# Altium schematic symbol library MCBoard_sch.SchLib: 61 symbols
Pins are listed as number, name and electrical type; pins without a type are passive.

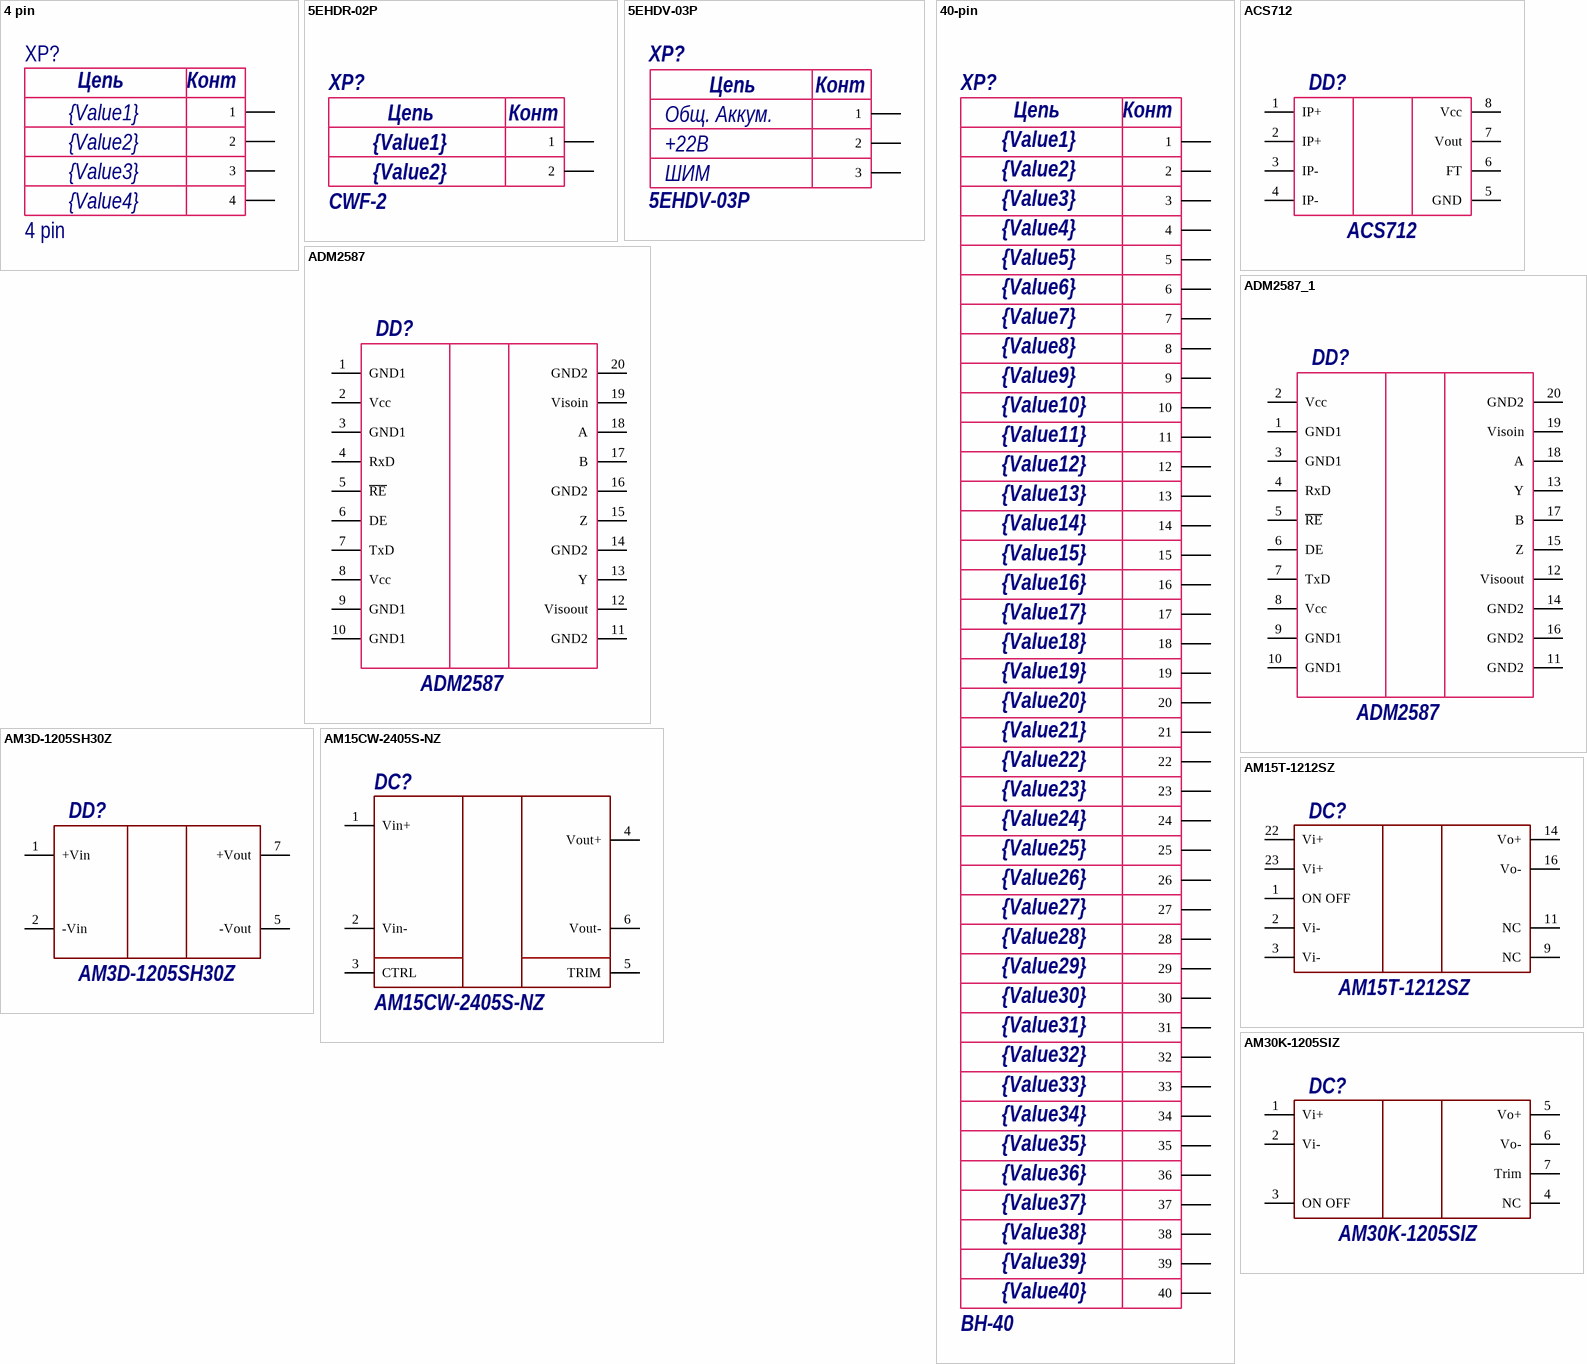
[diagram p0: symbols 4 pin to AM30K-1205SIZ]

## 4 pin
designator XP?  Value1: {Value1}  Value2: {Value2}  Value3: {Value3}  Value4: {Value4}
footprint PLD4
footprint CWF-4
pins: 1, 2, 3, 4
text: Цепь; Конт

## 5EHDR-02P
designator XP?  value CWF-2  Value1: {Value1}  Value2: {Value2}  (hidden comment: *)
Manufacturer: Connfly; Notice: Вилка-мама 2 пина, шаг 2.5мм; Rate: 500В AC 1min; Case: корпус; Datasheet: https://lib.chipdip.ru/413/DOC001413777.pdf; Shop: https://www.chipdip.ru/product/cwf-2
footprint 5EHDR-02P
pins: 1, 2
text: Цепь; Конт

## 5EHDV-03P
designator XP?  Value1: +22В  Value2: ШИМ  Value3: Общ. Аккум.  (hidden comment: 5EHDV-03P)
Manufactore: KLS; Rate: 300В 16ADC; Case: корпус; Shop: https://www.chipdip.ru/product/5ehdv-03p-dinkle?from=suggest_product; Value: 5EHDV-03P
footprint 5EHDV-03P
pins: 1, 2, 3
text: Цепь; Конт

## 40-pin
designator XP?  value BH-40  Value10: {Value10}  Value11: {Value11}  Value12: {Value12}  Value13: {Value13}  Value14: {Value14}  Value15: {Value15}  Value16: {Value16}  Value17: {Value17}  Value18: {Value18}  Value1: {Value1}  Value2: {Value2}  Value3: {Value3}  Value4: {Value4}  Value5: {Value5}  Value6: {Value6}  Value7: {Value7}  Value8: {Value8}  Value9: {Value9}  Value19: {Value19}  Value20: {Value20}  Value21: {Value21}  Value22: {Value22}  Value23: {Value23}  Value24: {Value24}  Value25: {Value25}  Value26: {Value26}  Value27: {Value27}  Value28: {Value28}  Value29: {Value29}  Value30: {Value30}  Value31: {Value31}  Value32: {Value32}  Value33: {Value33}  Value34: {Value34}  Value35: {Value35}  Value36: {Value36}  Value37: {Value37}  Value38: {Value38}  Value39: {Value39}  Value40: {Value40}  (hidden comment: *)
Manufacturer: Connfly; Notice: Вилка-мама 40 пинов, шаг 2.54мм; Rate: 500В AC 1min; Case: корпус; Datasheet: https://lib.chipdip.ru/463/DOC002463525.pdf; Shop: https://www.chipdip.ru/product/idc-40ms
footprint BH-40(IDC-40MS)
pins: 1, 2, 3, 4, 5, 6, 7, 8, 9, 10, 11, 12, 13, 14, 15, 16, 17, 18, 19, 20, 21, 22, 23, 24, 25, 26, 27, 28, 29, 30, 31, 32, 33, 34, 35, 36, 37, 38, 39, 40
text: Цепь; Конт

## ACS712
designator DD?
Manufacturer: Allegro Microsystems; Rate: 4,5...5,5В; Notice: Датчик постоянного тока на эффекте Холла; Datasheet: http://www.allegromicro.com/~/media/Files/Datasheets/ACS712-Datasheet.ashx; Shop: https://www.chipdip.ru/product/acs712elctr-05b-t; Value: ACS712
footprint SOIC8N (SOIC, 8-Leads, Body 4,90x3,90mm, Pitch 1,27mm, IPC Medium Density)
pins: 1 IP+, 2 IP+, 3 IP-, 4 IP-, 5 GND, 6 FT, 7 Vout, 8 Vcc

## ADM2587
designator DD?
Manufacturer: Analog Devies; Notice: Преобразователь RS-485 - UART с развязанным питанием и шиной данных; Rate: -0,5...7,5В; Datasheet: http://www.analog.com/media/en/technical-documentation/data-sheets/ADM2582E_2587E.pdf; Shop: https://ru.aliexpress.com/item/Free-shipping-10PCS-1lot-IC-ADM2587EBRWZ-ADM2587E-2587EBRWZ-SOP-20/32722806856.html?spm=a2g0v.search0302.3.9.s5rrmf&ws_ab_test=searchweb0_0,searchweb201602_0_10073_10152_10151_10536_10538_10537_10539_10055_10154_10211_10056_10155_10059_10312_10314_10534_10313_10533_10060_10084_100031_10083_10129_10107_10128_10307_10341_10065_10142_10340_10068_10343_10541_10342_10125_10169_10301_10345_10103_10543_10102_10344,searchweb201603_0,ppcSwitch_0&algo_pvid=65e5a329-1a38-4845-a227-d5df7d082cf8&algo_expid=65e5a329-1a38-4845-a227-d5df7d082cf8-1
footprint SOIC20N (SOIC, 20-Leads, Body 12,80x7,50mm, Pitch 1,27mm, IPC Medium Density)
pins: 1 GND1 (power), 2 Vcc (power), 3 GND1, 4 RxD, 5 ~{RE}, 6 DE, 7 TxD, 8 Vcc (power), 9 GND1 (power), 10 GND1, 11 GND2 (power), 12 Visoout (power), 13 Y, 14 GND2, 15 Z, 16 GND2, 17 B, 18 A, 19 Visoin (power), 20 GND2 (power)

## ADM2587_1
designator DD?, comment ADM2587
Manufacturer: Analog Devies; Notice: Преобразователь RS-485 - UART с развязанным питанием и шиной данных; Rate: -0,5...7,5В; Datasheet: http://www.analog.com/media/en/technical-documentation/data-sheets/ADM2582E_2587E.pdf; Shop: https://ru.aliexpress.com/item/Free-shipping-10PCS-1lot-IC-ADM2587EBRWZ-ADM2587E-2587EBRWZ-SOP-20/32722806856.html?spm=a2g0v.search0302.3.9.s5rrmf&ws_ab_test=searchweb0_0,searchweb201602_0_10073_10152_10151_10536_10538_10537_10539_10055_10154_10211_10056_10155_10059_10312_10314_10534_10313_10533_10060_10084_100031_10083_10129_10107_10128_10307_10341_10065_10142_10340_10068_10343_10541_10342_10125_10169_10301_10345_10103_10543_10102_10344,searchweb201603_0,ppcSwitch_0&algo_pvid=65e5a329-1a38-4845-a227-d5df7d082cf8&algo_expid=65e5a329-1a38-4845-a227-d5df7d082cf8-1
footprint SOIC20N (SOIC, 20-Leads, Body 12,80x7,50mm, Pitch 1,27mm, IPC Medium Density)
pins: 1 GND1 (power), 2 Vcc (power), 3 GND1, 4 RxD, 5 ~{RE}, 6 DE, 7 TxD, 8 Vcc (power), 9 GND1 (power), 10 GND1, 11 GND2 (power), 12 Visoout (power), 13 Y, 14 GND2, 15 Z, 16 GND2, 17 B, 18 A, 19 Visoin (power), 20 GND2 (power)

## AM3D-1205SH30Z
designator DD?
Manufacturer: AIMTEC; Rate: 10,8…13,2В; Shop: ЭЛТЕХ-СПБ; Datasheet: http://www.aimtec.com/site/Aimtec/files/Datasheet/HIGHResolution/AM3D-Z.PDF; Notice: *; Case: SIP7; Value: AM3D-1205SH30Z
footprint AM3D-1205SH30Z
pins: 1 +Vin, 2 -Vin, 5 -Vout, 7 +Vout

## AM15CW-2405S-NZ
designator DC?
Manufacturer: AIMTEC; Notice: 15Вт, вход 9…36В, выход 5В/3А,; Rate: 9…36В; Datasheet: https://www.promelec.ru/fs/sources/c7/a8/e3/a4/3827572c21b51c0d00be70eb.pdf; Shop: https://www.promelec.ru/product/368290/; Value: AM15CW-2405S-NZ
footprint AM15CW-2405S-NZ
pins: 1 Vin+, 2 Vin-, 3 CTRL, 4 Vout+, 5 TRIM, 6 Vout-

## AM15T-1212SZ
designator DC?  value AM15T-1212SZ  (hidden comment: *)
Manufacturer: Aimtec; Notice: 15 ваттный DC-DC преобразователь; Rate: 9...18В; Datasheet: http://www.aimtec.com/site/Aimtec/files/Datasheet/HighResolution/AM15T-Z.pdf; Shop: http://www.eltech.spb.ru/item/am15t_1212sz
footprint AM15T-1212SZ
pins: 1 ON OFF, 2 Vi-, 3 Vi-, 9 NC, 11 NC, 14 Vo+, 16 Vo-, 22 Vi+, 23 Vi+

## AM30K-1205SIZ
designator DC?  value AM30K-1205SIZ  (hidden comment: *)
Manufacturer: Aimtec; Notice: 30 ваттный DC-DC преобразователь; Rate: 9...18В; Datasheet: http://www.aimtec.com/site/Aimtec/files/Datasheet/HighResolution/AM30K-I-Z.pdf; Shop: https://www.eltech.spb.ru/item/am30k_1205siz
footprint AM30K-1205SIZ
pins: 1 Vi+, 2 Vi-, 3 ON OFF, 4 NC, 5 Vo+, 6 Vo-, 7 Trim

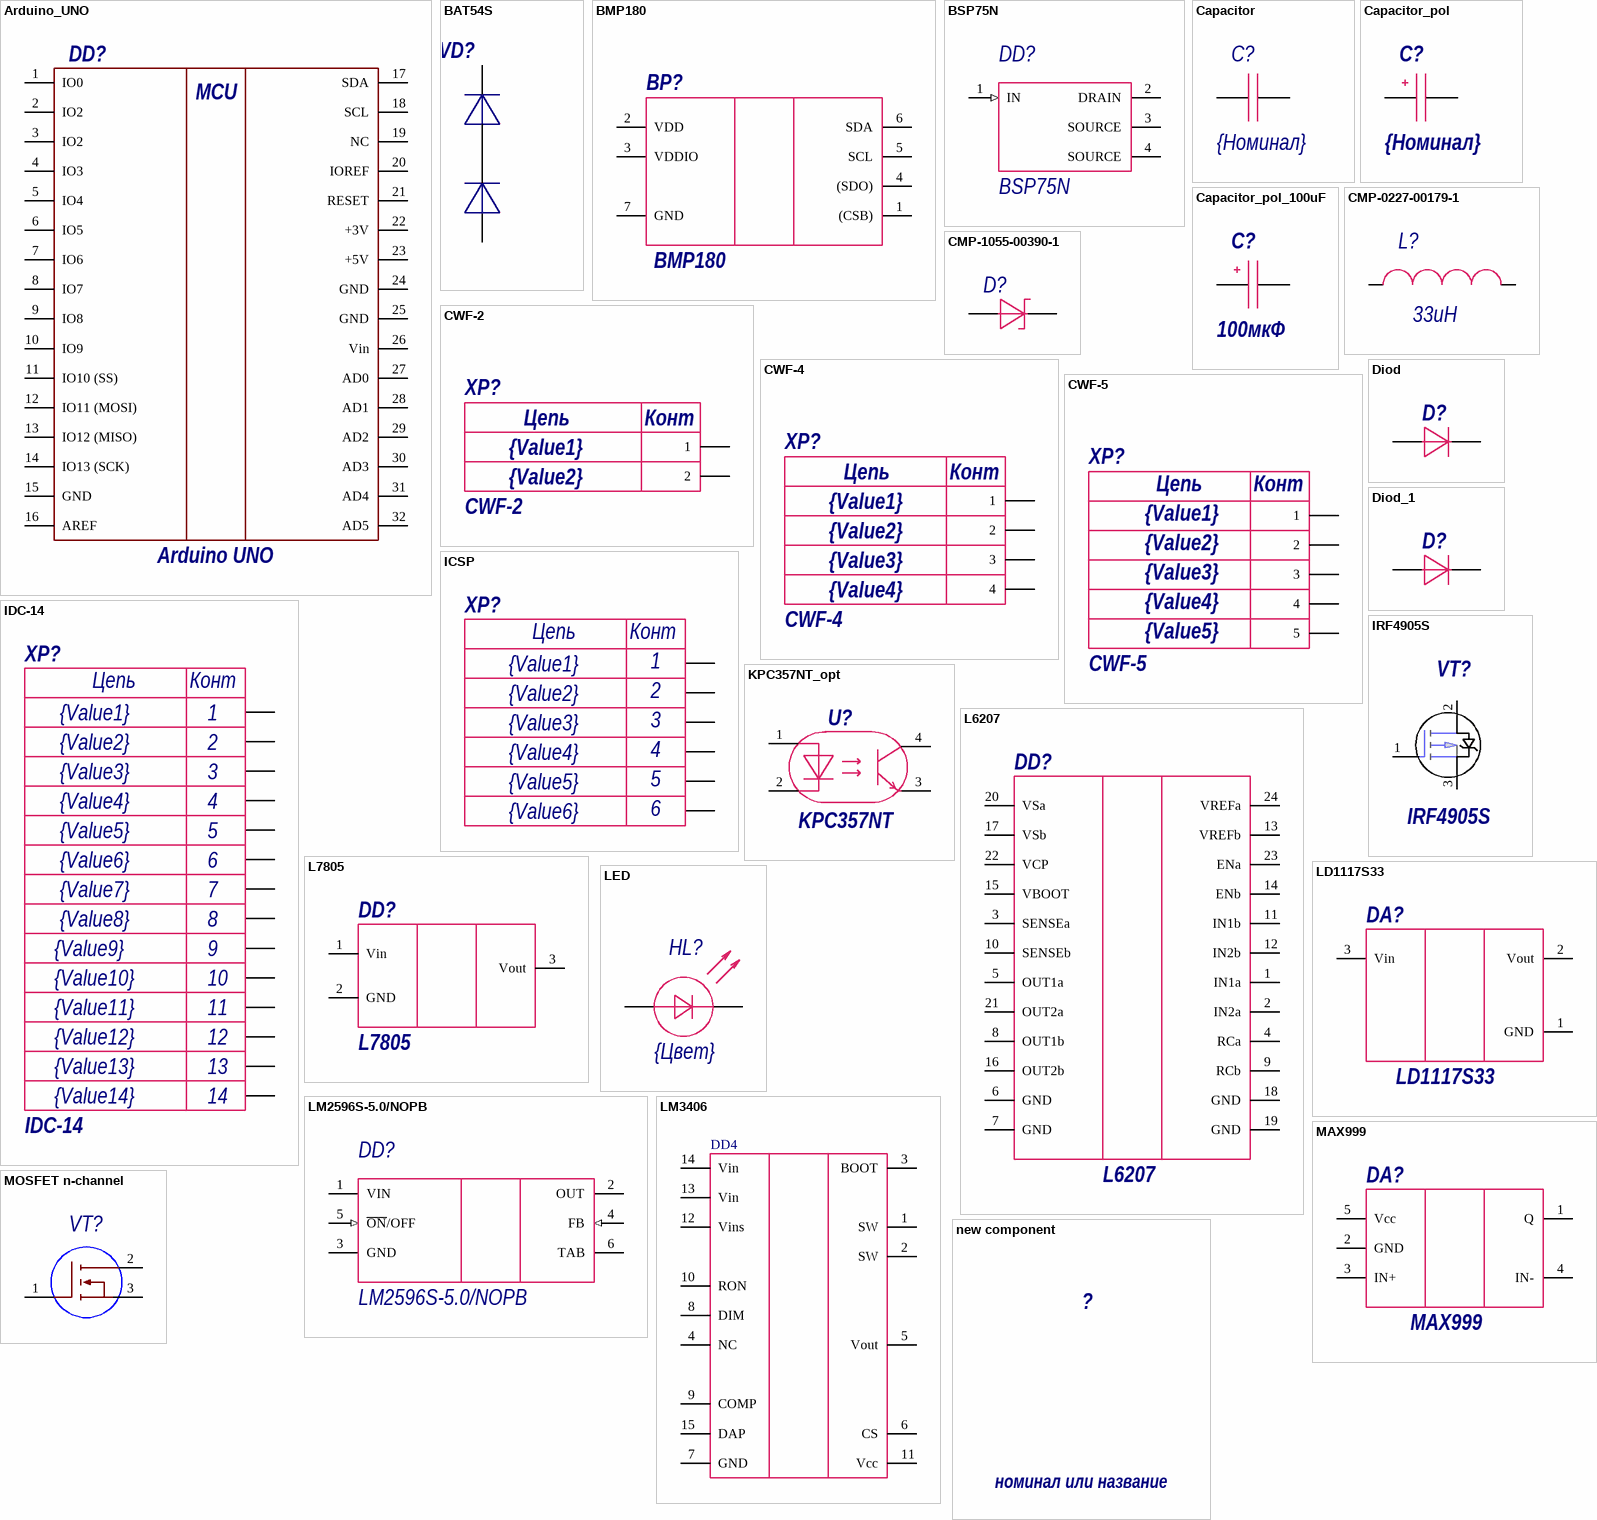
[diagram p1: symbols Arduino_UNO to new component]

## Arduino_UNO
designator DD?  value Arduino UNO  Value1: MCU  (hidden comment: *)
Manufacturer: Arduino; Notice: Микроконтроллерная плата; Rate: 6...20В; Datasheet: https://www.farnell.com/datasheets/1682209.pdf
footprint ARDUINO_UNO
pins: 1 IO0, 2 IO2, 3 IO2, 4 IO3, 5 IO4, 6 IO5, 7 IO6, 8 IO7, 9 IO8, 10 IO9, 11 IO10 (SS), 12 IO11 (MOSI), 13 IO12 (MISO), 14 IO13 (SCK), 15 GND, 16 AREF, 17 SDA, 18 SCL, 19 NC, 20 IOREF, 21 RESET, 22 +3V, 23 +5V, 24 GND, 25 GND, 26 Vin, 27 AD0, 28 AD1, 29 AD2, 30 AD3, 31 AD4, 32 AD5

## BAT54S
designator VD?
Manufactore: Philips; Rate: 30В; Case: SOT23; Datasheet: https://lib.chipdip.ru/205/DOC000205087.pdf
footprint SOT23
pins: 1, 2, 3

## BMP180
designator BP?
Manufactore: Bosch; Rate: 1,62...3,6В; Notice: Цифровой датчик давления; Datasheet: https://cdn-shop.adafruit.com/datasheets/BST-BMP180-DS000-09.pdf; Shop: http://www.electronshik.ru/item/bmp180-982764; Value: BMP180
footprint LGA7C147P3X3_380X360X100 (LGA, 7-Leads, Body 3,80x3,60mmx1,00mm, Pitch 1,47mm)
pins: 1 (CSB), 2 VDD, 3 VDDIO, 4 (SDO), 5 SCL, 6 SDA, 7 GND

## BSP75N
designator DD?
Smart Low-Side Power Switch HITFET, 60 V VDS, 0.7 A ID, -40 to 150 degC, PG-SOT223-SC-73, Reel, Green; Manufacturer: Infineon; ton (max): 20 us; Green: TRUE; Ptot (max): 1.8 W; ID: 0.7 A; VDS (max): 60 V; ID(lim) (min): 1 A; RDS (on)(max): 550 mOhm; Channels: 1; ComponentLink1URL: http://www.infineon.com/; ComponentLink2URL: http://www.infineon.com/dgdl/BSP75N_DS_14.pdf?folderId=db3a3043163797a6011667aa084c0e01&fileId=db3a30431ed1d7b2011f471f5a0256d1&location=en.Products.Automotive_ICs.Smart_High-_and_Low-Side_Switches.HITFET___TEMPFET__-_Smart_Low-Side_Switches.DATASHEET.BSP7; Mounting Technology: Surface Mount; ComponentLink3Description: Package Specification; Halogen-free: FALSE; PackageReference: PG-SOT223 (SC-73); DatasheetVersion: Rev. 1.4; Packing: Reel; PackageDescription: 4-Pin Small Outline Transistor Package, 6.5 x 3.5 mm Body, 2.3 mm Pitch; ComponentLink2Description: Datasheet; ComponentLink1Description: Manufacturer URL; PackageVersion: Apr-08; toff (max): 20 us; Group: HITFET; ComponentLink3URL: http://www.infineon.com/dgdl/SOT223-Package_Overview.pdf?folderId=db3a30431936bc4b0119530470b03c3d&fileId=db3a30431936bc4b0119531d40b93c5c; PartNumber: BSP75N; ID(nom): 0.7 A
footprint INF-PG-SOT223_SC-73_M (SOT223, 4-Leads, Body 6.5x3.5mm, Pitch 2.3mm, IPC Low Density)
pins: 1 IN (in) "Input;activates output and supplies internal logic", 2 DRAIN (power) "Output to the load", 3 SOURCE (power) "Ground;pin3 and TAB are internally connected", 4 SOURCE (power) "Ground;pin3 and TAB are internally connected"

## Capacitor
designator C?  value {Номинал}  (hidden comment: Capacitor)
footprint 0603C (Chip Resistor, 2-Leads, Body 1,40x0,80mm, IPC Medium Density)
footprint 0805C
pins: 1, 2

## Capacitor_pol
designator C?, comment value {Номинал}  (hidden comment: 1uF)
footprint TC_A (3216) (Tantalum capacitor, type A,  1 pin - plus)
footprint TC_E (7343H) (Tantalum capacitor, type E, 1 pin - plus)
footprint TC_D (7343) (Tantalum capacitor, type D, 1 pin - plus)
footprint TC_C (6032) (Tantalum capacitor, type C, 1 pin - plus)
footprint TC_B (3528) (Tantalum capacitor, type B, 1 pin - plus)
pins: 1, 2

## Capacitor_pol_100uF
designator C?, comment value 100мкФ  (hidden comment: 100uF)
Shop: https://www.chipdip.ru/product0/9000565887
footprint CAPPR65-350-1150X800X1250 (THD, 2-Leads, Dia 8mm, Body 11.5mm)
pins: 1, 2

## CMP-0227-00179-1
designator L?, comment 33uH
SMD-Shielded Power Inductor WE-PD, L = 33.0 µH; Inductance: 33.0 ÂµH; ComponentLink2Description: Datasheet; PackageVersion: 2004; DatasheetVersion: ver 1, Oct-2004; PackageDescription: SMD Inductor, 2-Leads, Body 12.0 x 12.0 mm; ComponentLink1URL: http://www.we-online.com; ComponentLink2URL: http://www.we-online.de/katalog/media/pdf/7447709330.pdf; PackageReference: WE-PD-XXL; ComponentLink1Description: Manufacturer Link
footprint WE-PD-XXL (SMD Inductor, 2-Leads, Body 12.0 x 12.0 mm)
pins: 1, 2

## CMP-1055-00390-1
designator D?, comment MBRS540T3G  (value not drawn)
Schottky Power Rectifier, 2-Pin SMC, Pb-Free, Tape and Reel; Manufacturer: On Semiconductor; Configuration: Single; IFSM Max (A): 190; ComponentLink1URL: http://www.onsemi.com/; ComponentLink3URL: http://www.onsemi.com/pub_link/Collateral/403-03.PDF; ComponentLink1Description: Manufacturer URL; PackageVersion: Rev. E, 08/2005; Packing: Tape and Reel; ComponentLink2URL: http://www.onsemi.cn/pub_link/Collateral/MBRS540T3-D.PDF; RoHS: TRUE; DatasheetVersion: Rev. 8; Mounting Technology: Surface Mount; ComponentLink3Description: Package Specification; ComponentLink2Description: Datasheet; PartNumber: MBRS540T3G; PackageDescription: 2-Pin Small Molded Package, J-Bend Lead, Body 5.845 x 6.855 mm; PackageReference: SMC-2-403-03
footprint ONSC-SMC-2-403-03_V (Molded, 2-Leads, Body 6.86x5.84mm)
pins: 1, 2

## CWF-2
designator XP?  value CWF-2  Value1: {Value1}  Value2: {Value2}  (hidden comment: *)
Manufacturer: Connfly; Notice: Вилка-мама 2 пина, шаг 2.5мм; Rate: 500В AC 1min; Case: корпус; Datasheet: https://lib.chipdip.ru/413/DOC001413777.pdf; Shop: https://www.chipdip.ru/product/cwf-2
footprint CWF-2 (перемычка для плат)
pins: 1, 2
text: Цепь; Конт

## CWF-4
designator XP?  value CWF-4  Value1: {Value1}  Value2: {Value2}  Value3: {Value3}  Value4: {Value4}  (hidden comment: *)
Manufactore: Connfly; Notice: Вилка-мама 4 пина, шаг 2.5мм; Rate: 500В AC 1min; Case: корпус; Datasheet: https://lib.chipdip.ru/413/DOC001413777.pdf; Shop: https://www.chipdip.ru/product/cwf-4
footprint CWF-4
pins: 1, 2, 3, 4
text: Цепь; Конт

## CWF-5
designator XP?  value CWF-5  Value1: {Value1}  Value2: {Value2}  Value3: {Value3}  Value4: {Value4}  Value5: {Value5}  (hidden comment: *)
Notice: Вилка-мама 5 пинов, шаг 2.5мм; Rate: 500В AC 1min; Case: корпус; Datasheet: https://lib.chipdip.ru/413/DOC001413777.pdf; Manufactore: CWF-5; Shop: https://www.chipdip.ru/product/cwf-5
footprint CWF-5
pins: 1, 2, 3, 4, 5
text: Цепь; Конт

## Diod
designator D?
Value: {Номинал}
footprint SOD-123 (SODFL, 2-Leads, Body 1.55x3.70mm, IPC Medium Density)
pins: 1, 2

## Diod_1
designator D?
Value: {Номинал}; Datasheet: https://www.terraelectronica.ru/pdf/show?pdf_file=http%253A%252F%252Fwww.farnell.com%252Fdatasheets%252F1480487.pdf; Shop: https://www.terraelectronica.ru/product/1932087
footprint SOD-123 (SODFL, 2-Leads, Body 1.55x3.70mm, IPC Medium Density)
footprint DIOM4326X23M (Molded Diode, 2-Leads, Body 4,30x2,61mm, IPC Low Density)
pins: 1, 2

## ICSP
designator XP?  Value1: {Value1}  Value2: {Value2}  Value6: {Value6}  Value5: {Value5}  Value3: {Value3}  Value4: {Value4}  (hidden comment: *)
Notice: Вилка программатора
footprint ICSP
pins: 1, 2, 3, 4, 5, 6
text: Цепь; Конт

## IDC-14
designator XP?  value IDC-14  Value1: {Value1}  Value2: {Value2}  Value3: {Value3}  Value4: {Value4}  Value5: {Value5}  Value6: {Value6}  Value7: {Value7}  Value8: {Value8}  Value9: {Value9}  Value10: {Value10}  Value11: {Value11}  Value12: {Value12}  Value13: {Value13}  Value14: {Value14}  (hidden comment: *)
Manufacturer: Zhenqin; Notice: Вилка-мама 14 пинов, шаг 2.54мм; Rate: 1000В AC 1min; Datasheet: https://lib.chipdip.ru/273/DOC000273693.pdf; Shop: https://www.chipdip.ru/product/idc-14f
footprint IDC-14MC (IDC-14 Male Connector)
pins: 1, 2, 3, 4, 5, 6, 7, 8, 9, 10, 11, 12, 13, 14
text: Цепь; Конт

## IRF4905S
designator VT?  value IRF4905S  (hidden comment: *)
Manufacturer: International Rectifier; Notice: P-канальный MOSFET транзистор; Rate: -20...20В Затвор-исток; Datasheet: http://www.irf.com/product-info/datasheets/data/irf4905s.pdf; Shop: https://www.chipdip.ru/product/irf4905
footprint D2PAK (D2-PAK, 3-Pads, Body 8,21x8,63mm (max), IPC Medium Density)
pins: 1, 2, 3

## KPC357NT_opt
designator U?, comment KPC357NT
Manufacturer: Cosmo Electronics; Notice: Оптопара с фототранзистором; Rate: -5...80В Коллектор-эмиттер, 6В - обратное напряжение диода; Datasheet: http://www.cosmo-ic.com/object/products/KPC357NT.pdf; Shop: https://www.chipdip.ru/product/kpc357nt; Value: KPC357NT
footprint OPTRON
pins: 1, 2, 3, 4

## L6207
designator DD?
Manufacturer: ST Microelectronics; Notice: КМОП-драйвер с ШИМ; Rate: -0,3...7В - цифровое, 8...60В - силовое; Datasheet: http://www.st.com/content/ccc/resource/technical/document/datasheet/4f/3d/e2/db/94/78/40/93/CD00002293.pdf/files/CD00002293.pdf/jcr:content/translations/en.CD00002293.pdf; Shop: https://ru.aliexpress.com/item/10pcs-lot-L6207D013TR-L6207D-L6207-SOP24/32709430801.html?spm=a2g0v.search0302.3.8.qwH52J&ws_ab_test=searchweb0_0,searchweb201602_0_10073_10152_10151_10536_10538_10537_10539_10055_10154_10211_10056_10155_10059_10312_10314_10534_10313_10533_10060_10084_100031_10083_10129_10107_10128_10307_10341_10065_10142_10340_10068_10343_10541_10342_10125_10169_10301_10345_10103_10543_10102_10344,searchweb201603_0,ppcSwitch_0&algo_pvid=a021a9ff-919b-413d-924d-a9c531deb961&algo_expid=a021a9ff-919b-413d-924d-a9c531deb961-1; Value: L6207
footprint SO24
pins: 1 IN1a, 2 IN2a, 3 SENSEa, 4 RCa, 5 OUT1a, 6 GND, 7 GND, 8 OUT1b, 9 RCb, 10 SENSEb, 11 IN1b, 12 IN2b, 13 VREFb, 14 ENb, 15 VBOOT, 16 OUT2b, 17 VSb, 18 GND, 19 GND, 20 VSa, 21 OUT2a, 22 VCP, 23 ENa, 24 VREFa

## L7805
designator DD?  value L7805
L7805_stab 12->5; Manufacturer: ST Microelectronics; Notice: Стабилизатор напряжения +5В; Rate: ...35В; Datasheet: http://www.st.com/content/ccc/resource/technical/document/datasheet/41/4f/b3/b0/12/d4/47/88/CD00000444.pdf/files/CD00000444.pdf/jcr:content/translations/en.CD00000444.pdf; Shop: https://www.chipdip.ru/product/l7805cv
footprint DPAK (D-PAK, 3-Pads, Body 6.20x6.66mm (max), IPC Medium Density)
pins: 1 Vin, 2 GND, 3 Vout

## LD1117S33
designator DA?
Manufacturer: ST Microelectronics; Notice: Стабилизатор напряжения 3,3В; Rate: 0...15В; Datasheet: https://lib.chipdip.ru/168/DOC001168686.pdf; Shop: https://www.chipdip.ru/product/ld1117v33; Case: SOT223; Value: LD1117S33
footprint SOT223 (SOT223, ld1117)
pins: 1 GND, 2 Vout, 3 Vin

## LED
designator HL?  Color: {Цвет}
Manufacturer: -; Rate: -; Datasheet: -; Shop: -; Notice: -; Case: -
footprint 0805D
pins: 1, 2

## LM2596S-5.0/NOPB
designator DD?
SIMPLE SWITCHER® Power Converter 150 KHz 3A Step-Down Voltage Regulator, 5-pin TO-263, Pb-Free; Manufacturer: Texas Instruments; PowerWise: N; PackageTopMarking: NSUZXYTTE#*LM2596S*-5.0 P+; ComponentLink1URL: http://www.ti.com/general/docs/lit/getliterature.tsp?genericPartNumber=LM2596&fileType=pdf; PackageDescription: TO-263, Molded, .400 x .390 x .180in, 5 Lead, .067in Pitch, Surface Mount; RoHS: Y; PinCount: 5; Code_JEDEC: MO-169-AB; ComponentLink1Description: Datasheet URL; PackageReference: KTT0005B; CompType: Switcher
footprint KTT0005B_L (DPAK, 5-Leads, Body 10.65x9.65mm, Pitch 1.7mm, IPC High Density)
pins: 1 VIN (power), 2 OUT (power), 3 GND (power), 4 FB (in), 5 ~{ON}/OFF (in), 6 TAB (power)

## LM3406
designator DD4  (value not drawn)
pins: 1 SW, 2 SW, 3 BOOT, 4 NC, 5 Vout, 6 CS, 7 GND, 8 DIM, 9 COMP, 10 RON, 11 Vcc, 12 Vins, 13 Vin, 14 Vin, 15 DAP

## MAX999
designator DA?
Manufacturer: Maxin Integrated; Notice: Высокоскоростной компаратор; Rate: 2,7...5,5В; Datasheet: https://datasheets.maximintegrated.com/en/ds/MAX961-MAX999.pdf; Shop: https://ru.aliexpress.com/item/Free-shipping-10pcs-lot-MAX999EUK-T-MAX999EUK-MAX999EUK-MAX999E-MAX999-IC-COMP-BEYOND-THE-RAILS-SOT23/32327459016.html?spm=a2g0v.search0104.3.9.NvBKPz&ws_ab_test=searchweb0_0,searchweb201602_2_10152_10065_10151_10344_10068_10345_10342_10343_10340_10341_10543_10541_10084_10083_10307_10301_5640015_10060_10155_10154_10056_10055_10539_10538_5370015_10537_10312_10536_10059_10313_10314_10534_10533_100031_10211_10103_10128_10073_10102_10129_10169_10142_10107_10125,searchweb201603_2,ppcSwitch_5&btsid=31b68e71-95a5-4f7a-86e6-35d0c4d1aa2b&algo_expid=dcb29998-31f2-4313-bc28-512c5678a331-1&algo_pvid=dcb29998-31f2-4313-bc28-512c5678a331; Value: MAX999
footprint SOT23-5 (SOT23-5, max999)
pins: 1 Q, 2 GND, 3 IN+, 4 IN-, 5 Vcc

## MOSFET n-channel
designator VT?
footprint TO 220 DRAIN DOWN
pins: 1, 2, 3

## new component
designator ?, comment номинал или название
Manufacturer: производитель; Rate: уровень напряжений; Shop: магазин с самой дешевой ценой; Notice: примечания; Datasheet: ссылка на даташит; Case: корпус; Value: номинал или название

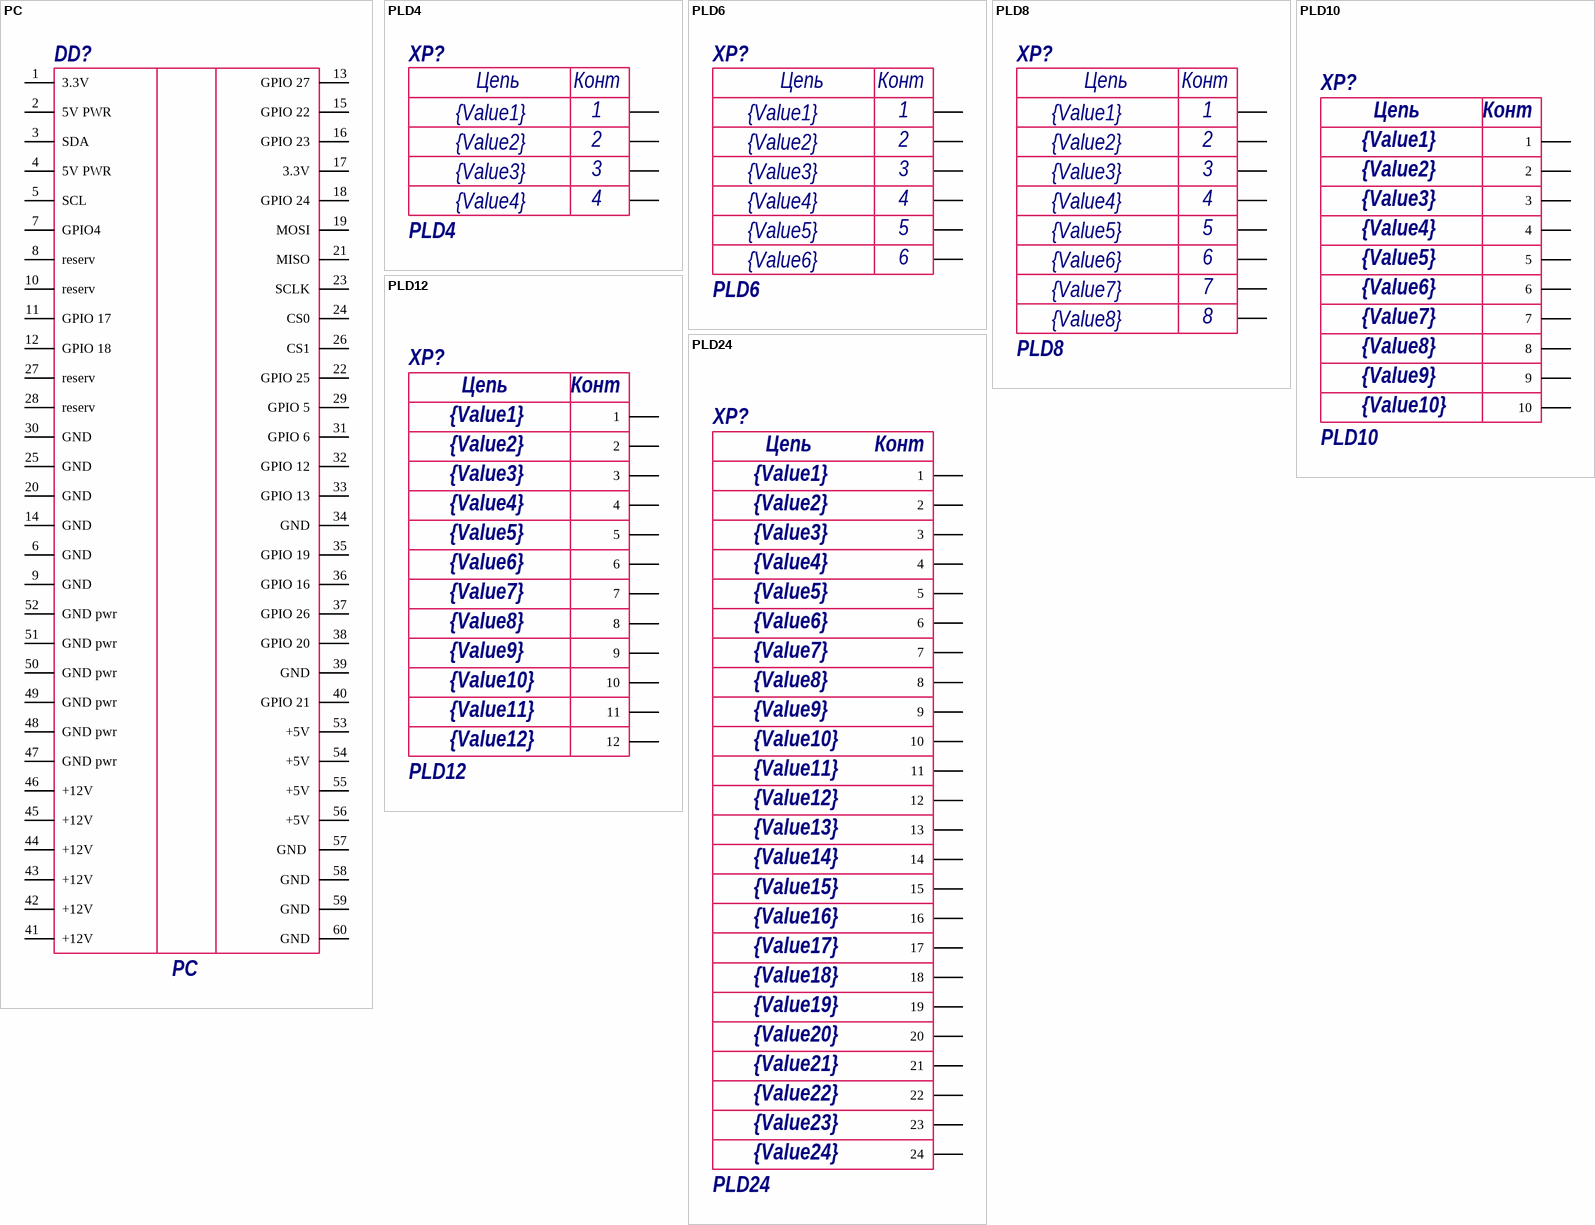
[diagram p2: symbols PC to PLD24]

## PC
designator DD?  value PC  (hidden comment: *)
footprint PC
pins: 1 3.3V, 2 5V PWR, 3 SDA, 4 5V PWR, 5 SCL, 6 GND, 7 GPIO4, 8 reserv, 9 GND, 10 reserv, 11 GPIO 17, 12 GPIO 18, 13 GPIO 27, 14 GND, 15 GPIO 22, 16 GPIO 23, 17 3.3V, 18 GPIO 24, 19 MOSI, 20 GND, 21 MISO, 22 GPIO 25, 23 SCLK, 24 CS0, 25 GND, 26 CS1, 27 reserv, 28 reserv, 29 GPIO 5, 30 GND, 31 GPIO 6, 32 GPIO 12, 33 GPIO 13, 34 GND, 35 GPIO 19, 36 GPIO 16, 37 GPIO 26, 38 GPIO 20, 39 GND, 40 GPIO 21, 41 +12V, 42 +12V, 43 +12V, 44 +12V, 45 +12V, 46 +12V, 47 GND pwr, 48 GND pwr, 49 GND pwr, 50 GND pwr, 51 GND pwr, 52 GND pwr, 53 +5V, 54 +5V, 55 +5V, 56 +5V, 57 GND , 58 GND, 59 GND, 60 GND

## PLD4
designator XP?  value PLD4  Value3: {Value3}  Value2: {Value2}  Value4: {Value4}  Value1: {Value1}  (hidden comment: *)
Manufacturer: Connfly; Notice: Вилка штырьевая 4 пина, шаг 2,54мм; Rate: 500В AC 1min; Datasheet: https://lib.chipdip.ru/227/DOC000227157.pdf; Shop: https://www.chipdip.ru/product/pls-4
footprint PLD4
pins: 1, 2, 3, 4
text: Цепь; Конт

## PLD6
designator XP?  value PLD6  Value1: {Value1}  Value2: {Value2}  Value3: {Value3}  Value4: {Value4}  Value5: {Value5}  Value6: {Value6}  (hidden comment: *)
Manufacturer: Connfly; Notice: Вилка штырьевая 6 пинов, шаг 2,54мм; Rate: 500В AC 1min; Datasheet: https://lib.chipdip.ru/227/DOC000227157.pdf; Shop: https://www.chipdip.ru/product/pld-6
footprint PLD6
pins: 1, 2, 3, 4, 5, 6
text: Цепь; Конт

## PLD8
designator XP?  value PLD8  Value1: {Value1}  Value2: {Value2}  Value3: {Value3}  Value4: {Value4}  Value5: {Value5}  Value6: {Value6}  Value7: {Value7}  Value8: {Value8}  (hidden comment: *)
Manufacturer: Connfly; Notice: Вилка штырьевая 8 пинов, шаг 2,54мм; Rate: 500В AC 1min; Datasheet: https://lib.chipdip.ru/227/DOC000227157.pdf; Shop: https://www.chipdip.ru/product/pld-8-ds1021-2x4
footprint PLD8
pins: 1, 2, 3, 4, 5, 6, 7, 8
text: Цепь; Конт

## PLD10
designator XP?  value PLD10  Value10: {Value10}  Value1: {Value1}  Value2: {Value2}  Value3: {Value3}  Value4: {Value4}  Value5: {Value5}  Value6: {Value6}  Value7: {Value7}  Value8: {Value8}  Value9: {Value9}  (hidden comment: *)
Manufacturer: Connfly; Notice: Вилка штырьевая 10 пинов, шаг 2,54мм; Rate: 500В AC 1min; Datasheet: https://lib.chipdip.ru/227/DOC000227157.pdf; Shop: https://www.chipdip.ru/product/pld-10
footprint PLD10
pins: 1, 2, 3, 4, 5, 6, 7, 8, 9, 10
text: Цепь; Конт

## PLD12
designator XP?  value PLD12  Value10: {Value10}  Value11: {Value11}  Value12: {Value12}  Value1: {Value1}  Value2: {Value2}  Value3: {Value3}  Value4: {Value4}  Value5: {Value5}  Value6: {Value6}  Value7: {Value7}  Value8: {Value8}  Value9: {Value9}  (hidden comment: *)
Manufacturer: Connfly; Notice: Вилка штырьевая 12 пинов, шаг 2,54мм; Rate: 500В AC 1min; Datasheet: https://lib.chipdip.ru/227/DOC000227157.pdf; Shop: https://www.chipdip.ru/product/pld-12
footprint PLD12
pins: 1, 2, 3, 4, 5, 6, 7, 8, 9, 10, 11, 12
text: Цепь; Конт

## PLD24
designator XP?  value PLD24  Value10: {Value10}  Value11: {Value11}  Value12: {Value12}  Value13: {Value13}  Value14: {Value14}  Value15: {Value15}  Value16: {Value16}  Value17: {Value17}  Value18: {Value18}  Value1: {Value1}  Value2: {Value2}  Value3: {Value3}  Value4: {Value4}  Value5: {Value5}  Value6: {Value6}  Value7: {Value7}  Value8: {Value8}  Value9: {Value9}  Value19: {Value19}  Value20: {Value20}  Value21: {Value21}  Value22: {Value22}  Value23: {Value23}  Value24: {Value24}  (hidden comment: *)
Manufacturer: Connfly; Notice: Вилка штырьевая 24 пина, шаг 2,54мм; Rate: 500В AC 1min; Datasheet: https://lib.chipdip.ru/227/DOC000227157.pdf; Shop: https://www.chipdip.ru/product/pld-24
footprint PLD24
pins: 1, 2, 3, 4, 5, 6, 7, 8, 9, 10, 11, 12, 13, 14, 15, 16, 17, 18, 19, 20, 21, 22, 23, 24
text: Цепь; Конт

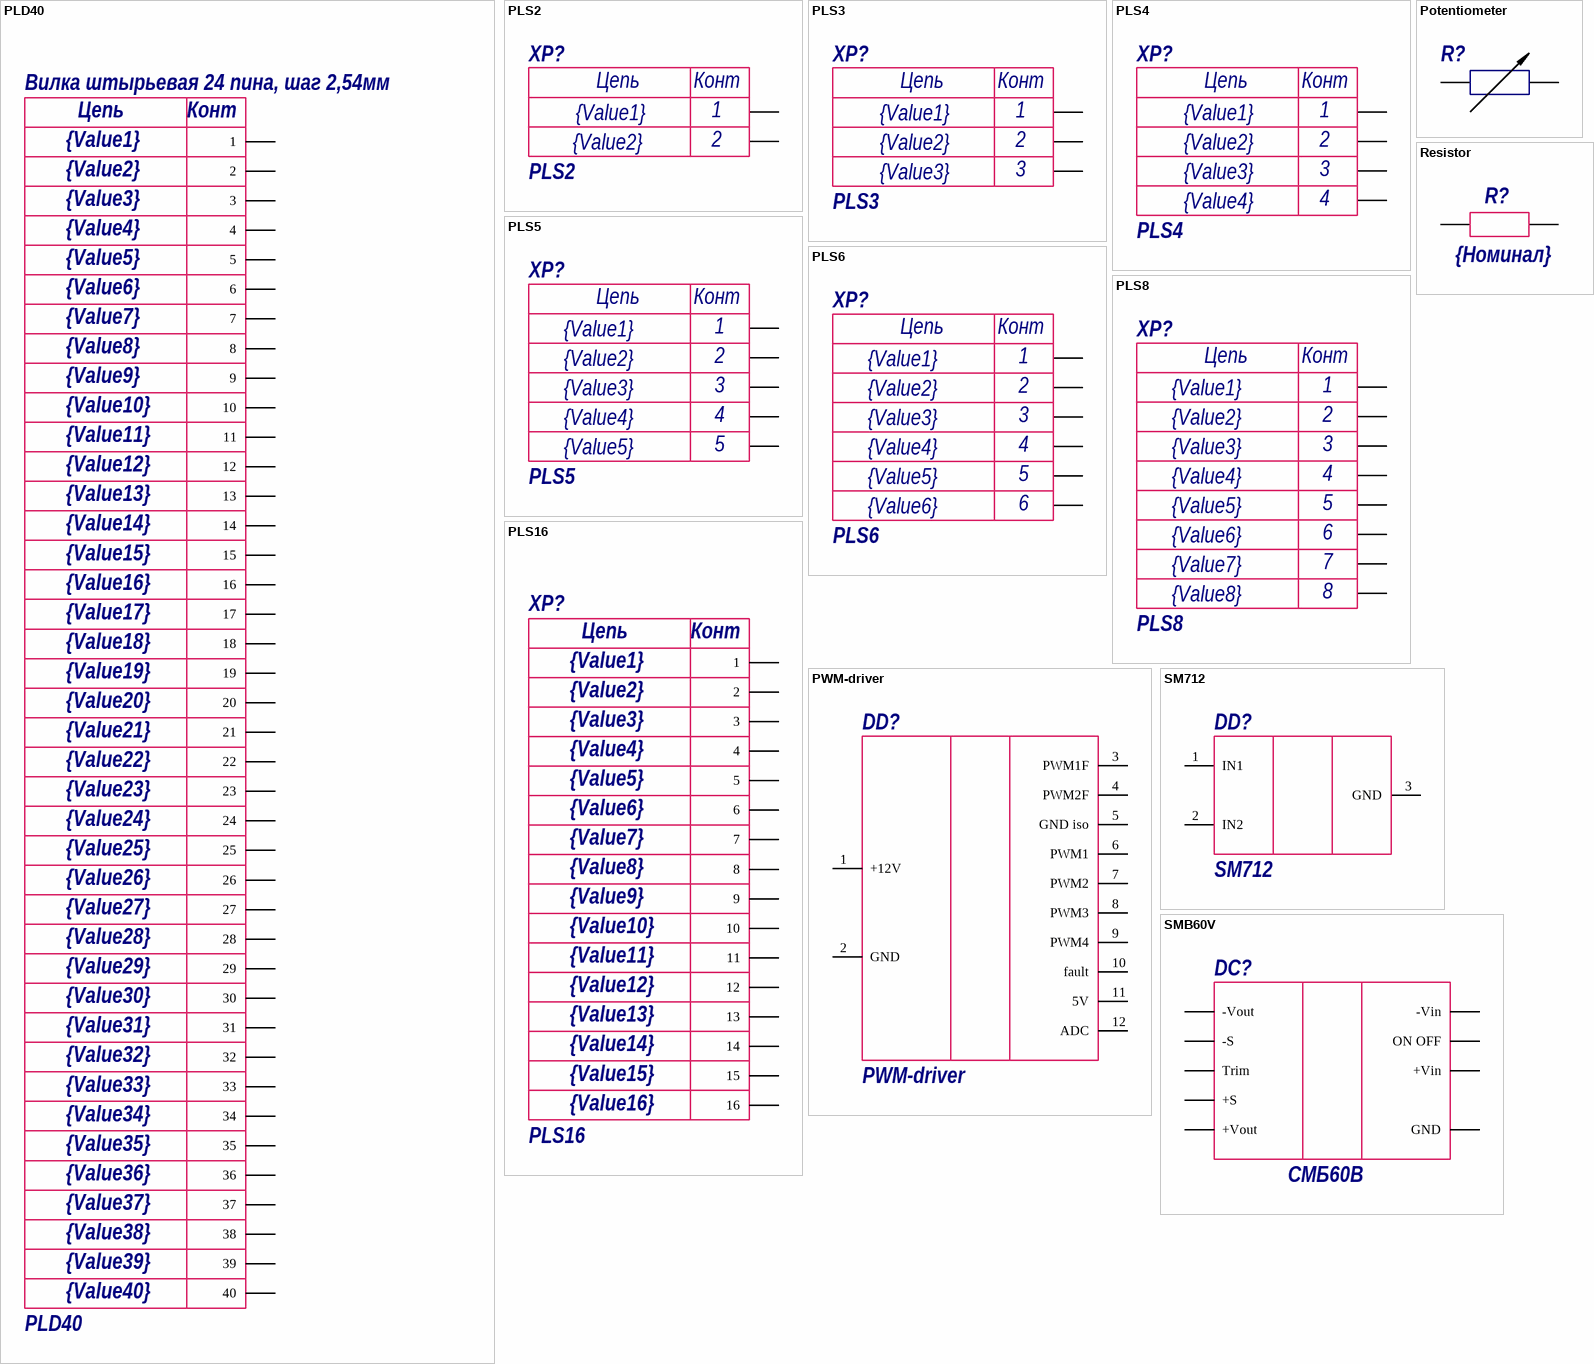
[diagram p3: symbols PLD40 to SMB60V]

## PLD40
designator Вилка штырьевая 24 пина, шаг 2,54мм  value PLD40  Value10: {Value10}  Value11: {Value11}  Value12: {Value12}  Value13: {Value13}  Value14: {Value14}  Value15: {Value15}  Value16: {Value16}  Value17: {Value17}  Value18: {Value18}  Value1: {Value1}  Value2: {Value2}  Value3: {Value3}  Value4: {Value4}  Value5: {Value5}  Value6: {Value6}  Value7: {Value7}  Value8: {Value8}  Value9: {Value9}  Value19: {Value19}  Value20: {Value20}  Value21: {Value21}  Value22: {Value22}  Value23: {Value23}  Value24: {Value24}  Value25: {Value25}  Value26: {Value26}  Value27: {Value27}  Value28: {Value28}  Value29: {Value29}  Value30: {Value30}  Value31: {Value31}  Value32: {Value32}  Value33: {Value33}  Value34: {Value34}  Value35: {Value35}  Value36: {Value36}  Value37: {Value37}  Value38: {Value38}  Value39: {Value39}  Value40: {Value40}  (hidden comment: *)
Manufacturer: Connfly; Notice: Вилка штырьевая 40 пинов, шаг 2,54мм; Rate: 500В AC 1min; Datasheet: https://lib.chipdip.ru/463/DOC002463525.pdf; Shop: https://www.chipdip.ru/product/pld-40
footprint PLD40
pins: 1, 2, 3, 4, 5, 6, 7, 8, 9, 10, 11, 12, 13, 14, 15, 16, 17, 18, 19, 20, 21, 22, 23, 24, 25, 26, 27, 28, 29, 30, 31, 32, 33, 34, 35, 36, 37, 38, 39, 40
text: Цепь; Конт

## PLS2
designator XP?  value PLS2  Value1: {Value1}  Value2: {Value2}  (hidden comment: *)
Manufacturer: Connfly; Notice: Вилка штырьевая 2 пина, шаг 2,54мм; Rate: 500В AC 1min; Datasheet: https://lib.chipdip.ru/227/DOC000227157.pdf; Shop: https://www.chipdip.ru/product/pls-2
footprint PLS2
pins: 1, 2
text: Цепь; Конт

## PLS3
designator XP?  value PLS3  Value3: {Value3}  Value2: {Value2}  Value1: {Value1}  (hidden comment: *)
Manufacturer: Connfly; Notice: Вилка штырьевая 3 пина, шаг 2,54мм; Rate: 500В AC 1min; Datasheet: https://lib.chipdip.ru/227/DOC000227157.pdf; Shop: https://www.chipdip.ru/product/pls-3
footprint PLS3
pins: 1, 2, 3
text: Цепь; Конт

## PLS4
designator XP?  value PLS4  Value3: {Value3}  Value2: {Value2}  Value4: {Value4}  Value1: {Value1}  (hidden comment: *)
Manufacturer: Connfly; Notice: Вилка штырьевая 4 пина, шаг 2,54мм; Rate: 500В AC 1min; Datasheet: https://lib.chipdip.ru/227/DOC000227157.pdf; Shop: https://www.chipdip.ru/product/pls-4
footprint PLS4
pins: 1, 2, 3, 4
text: Цепь; Конт

## PLS5
designator XP?  value PLS5  Value1: {Value1}  Value2: {Value2}  Value3: {Value3}  Value4: {Value4}  Value5: {Value5}  (hidden comment: *)
Manufacturer: Connfly; Notice: Вилка штырьевая 5 пинов, шаг 2,54мм; Rate: 500В AC 1min; Datasheet: https://lib.chipdip.ru/227/DOC000227157.pdf; Shop: https://www.chipdip.ru/product/pls-5
footprint PLS5
pins: 1, 2, 3, 4, 5
text: Цепь; Конт

## PLS6
designator XP?  value PLS6  Value1: {Value1}  Value2: {Value2}  Value3: {Value3}  Value4: {Value4}  Value5: {Value5}  Value6: {Value6}  (hidden comment: *)
Manufacturer: Connfly; Notice: Вилка штырьевая 6 пинов, шаг 2,54мм; Rate: 500В AC 1min; Datasheet: https://lib.chipdip.ru/227/DOC000227157.pdf; Shop: https://www.chipdip.ru/product/pls-6
footprint PLS6
pins: 1, 2, 3, 4, 5, 6
text: Цепь; Конт

## PLS8
designator XP?  value PLS8  Value1: {Value1}  Value2: {Value2}  Value3: {Value3}  Value4: {Value4}  Value5: {Value5}  Value6: {Value6}  Value7: {Value7}  Value8: {Value8}  (hidden comment: *)
Manufacturer: Connfly; Notice: Вилка штырьевая 8 пинов, шаг 2,54мм; Rate: 500В AC 1min; Datasheet: https://lib.chipdip.ru/227/DOC000227157.pdf; Shop: https://www.chipdip.ru/product/pls-8
pins: 1, 2, 3, 4, 5, 6, 7, 8
text: Цепь; Конт

## PLS16
designator XP?  value PLS16  Value10: {Value10}  Value11: {Value11}  Value12: {Value12}  Value13: {Value13}  Value14: {Value14}  Value15: {Value15}  Value16: {Value16}  Value1: {Value1}  Value2: {Value2}  Value3: {Value3}  Value4: {Value4}  Value5: {Value5}  Value6: {Value6}  Value7: {Value7}  Value8: {Value8}  Value9: {Value9}  (hidden comment: *)
Manufacturer: Connfly; Notice: Вилка штырьевая 16 пинов, шаг 2,54мм; Rate: 500В AC 1min; Datasheet: https://lib.chipdip.ru/227/DOC000227157.pdf; Shop: https://www.chipdip.ru/product/pls-16
footprint PLS16
pins: 1, 2, 3, 4, 5, 6, 7, 8, 9, 10, 11, 12, 13, 14, 15, 16
text: Цепь; Конт

## Potentiometer
designator R?  (value not drawn)
footprint POT4MM
pins: 1, 2, 3

## PWM-driver
designator DD?  value PWM-driver  (hidden comment: *)
pins: 1 +12V, 2 GND, 3 PWM1F, 4 PWM2F, 5 GND iso, 6 PWM1, 7 PWM2, 8 PWM3, 9 PWM4, 10 fault, 11 5V, 12 ADC

## Resistor
designator R?  value {Номинал}
footprint 0805R
footprint 0603R (Chip Resistor, 2-Leads, Body 1.60x0.85mm, IPC Medium Density)
pins: 1, 2

## SM712
designator DD?  value SM712  (hidden comment: *)
Manufactore: SEMTECH; Notice: Защита RS-485; Rate: 12В; Datasheet: http://www.semtech.com/images/datasheet/sm712.pdf; Shop: https://www.chipdip.ru/product/sm712.tct; Case: SOT23
footprint SOT23
pins: 1 IN1, 2 IN2, 3 GND

## SMB60V
designator DC?  value СМБ60В  (hidden comment: SMB60V)
СМБ60В; Manufacturer: Ирбис; Notice: DC-DC преобразователь 60 Вт, выходное напряжение - 12В; Rate: 18...72В; Datasheet: http://newet.ru/upload/iblock/da3/da32c35c0007bb917bca288ed4fe9d4e.pdf; Shop: http://newet.ru/catalog/s_vykhodnym_napryazheniem_12_v/konvertor_smb60v/
footprint SMB60V
pins: +S, +Vin, +Vout, -S, -Vin, -Vout, GND, ON OFF, Trim

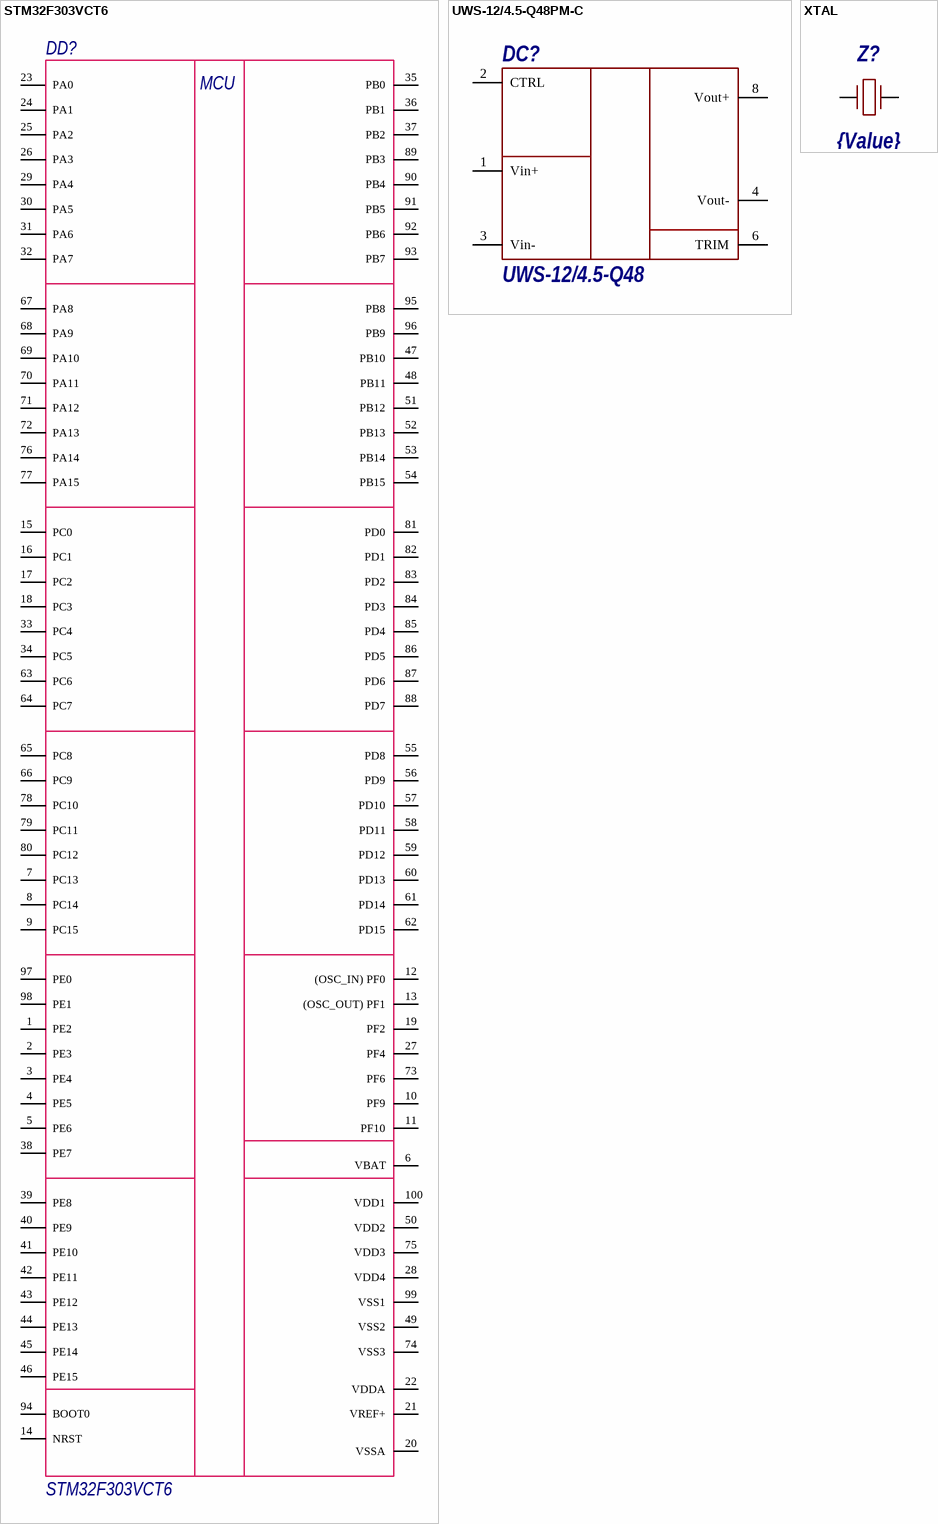
[diagram p4: symbols STM32F303VCT6 to XTAL]

## STM32F303VCT6
designator DD?
Manufactore: STMicroelectronics; Rate: 2.0 V to 3.6 V; Datasheet: http://www.st.com/content/ccc/resource/technical/document/datasheet/f2/1f/e1/41/ef/59/4d/50/DM00058181.pdf/files/DM00058181.pdf/jcr:content/translations/en.DM00058181.pdf; Footprint: LQFP100
footprint STM-LQFP100_V (Thin QFP, 100-Leads, Body 14x14mm, Pitch 0.5mm, ST Recommended)
pins: 1 PE2, 2 PE3, 3 PE4, 4 PE5, 5 PE6, 6 VBAT, 7 PC13, 8 PC14, 9 PC15, 10 PF9, 11 PF10, 12 (OSC_IN) PF0, 13 (OSC_OUT) PF1, 14 NRST, 15 PC0, 16 PC1, 17 PC2, 18 PC3, 19 PF2, 20 VSSA, 21 VREF+, 22 VDDA, 23 PA0, 24 PA1, 25 PA2, 26 PA3, 27 PF4, 28 VDD4, 29 PA4, 30 PA5, 31 PA6, 32 PA7, 33 PC4, 34 PC5, 35 PB0, 36 PB1, 37 PB2, 38 PE7, 39 PE8, 40 PE9, 41 PE10, 42 PE11, 43 PE12, 44 PE13, 45 PE14, 46 PE15, 47 PB10, 48 PB11, 49 VSS2, 50 VDD2, 51 PB12, 52 PB13, 53 PB14, 54 PB15, 55 PD8, 56 PD9, 57 PD10, 58 PD11, 59 PD12, 60 PD13, 61 PD14, 62 PD15, 63 PC6, 64 PC7, 65 PC8, 66 PC9, 67 PA8, 68 PA9, 69 PA10, 70 PA11, 71 PA12, 72 PA13, 73 PF6, 74 VSS3, 75 VDD3, 76 PA14, 77 PA15, 78 PC10, 79 PC11, 80 PC12, 81 PD0, 82 PD1, 83 PD2, 84 PD3, 85 PD4, 86 PD5, 87 PD6, 88 PD7, 89 PB3, 90 PB4, 91 PB5, 92 PB6, 93 PB7, 94 BOOT0, 95 PB8, 96 PB9, 97 PE0, 98 PE1, 99 VSS1, 100 VDD1
text: MCU

## UWS-12/4.5-Q48PM-C
designator DC?  value UWS-12/4.5-Q48  (hidden comment: UWS-12/4.5-Q48PM-C)
Manufacturer: Murata; Notice: 54 ваттный DC-DC преобразователь; Rate: 18...75В; Datasheet: https://www.murata.com/products/productdata/8807041073182/uws.pdf?1583754815000
footprint UWS-12/4.5-Q48PM-C
pins: 1 Vin+, 2 CTRL, 3 Vin-, 4 Vout-, 6 TRIM, 8 Vout+

## XTAL
designator Z?  value {Value}  (hidden comment: *)
XTAL
footprint HC49US
pins: 1, 2